# Altium integrated library WE-SLM SMD Common Mode Line Filter.IntLib: 5 symbols
Pins are listed as number, name and electrical type; pins without a type are passive.

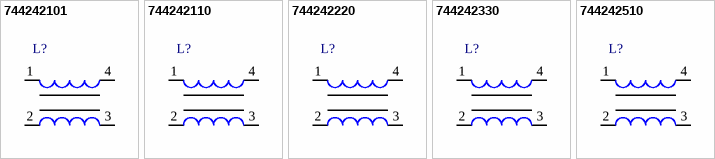
[diagram p0: symbols 744242101 to 744242510]

## 744242101
designator L?
SMD Common Mode Line Filter WE-SLM, L = 100 µH; PartNumber: 744242101; Inductance: 100 µH; DatasheetVersion: ver 3, Feb-2006; PackageReference: WE-SLM; PackageDescription: SMD Inductor, 4-Leads, Body 3.6 x 6.3 mm; ComponentLink1Description: Manufacturer URL; ComponentLink1URL: http://www.we-online.com; ComponentLink2Description: Datasheet; ComponentLink2URL: http://www.we-online.de/katalog/media/pdf/744242101.pdf
footprint WE-SLM (SMD Inductor, 4-Leads, Body 3.6x6.3x3.5 mm)
pins: 1, 2, 3, 4

## 744242110
designator L?
SMD Common Mode Line Filter WE-SLM, L = 11.0 µH; PartNumber: 744242110; Inductance: 11.0 µH; DatasheetVersion: ver 3, Feb-2006; PackageReference: WE-SLM; PackageDescription: SMD Inductor, 4-Leads, Body 3.6 x 6.3 mm; ComponentLink1Description: Manufacturer URL; ComponentLink1URL: http://www.we-online.com; ComponentLink2Description: Datasheet; ComponentLink2URL: http://www.we-online.de/katalog/media/pdf/744242110.pdf
footprint WE-SLM (SMD Inductor, 4-Leads, Body 3.6x6.3x3.5 mm)
pins: 1, 2, 3, 4

## 744242220
designator L?
SMD Common Mode Line Filter WE-SLM, L = 22.0 µH; PartNumber: 744242220; Inductance: 22.0 µH; DatasheetVersion: ver 3, Feb-2006; PackageReference: WE-SLM; PackageDescription: SMD Inductor, 4-Leads, Body 3.6 x 6.3 mm; ComponentLink1Description: Manufacturer URL; ComponentLink1URL: http://www.we-online.com; ComponentLink2Description: Datasheet; ComponentLink2URL: http://www.we-online.de/katalog/media/pdf/744242220.pdf
footprint WE-SLM (SMD Inductor, 4-Leads, Body 3.6x6.3x3.5 mm)
pins: 1, 2, 3, 4

## 744242330
designator L?
SMD Common Mode Line Filter WE-SLM, L = 33.0 µH; PartNumber: 744242330; Inductance: 33.0 µH; DatasheetVersion: ver 3, Feb-2006; PackageReference: WE-SLM; PackageDescription: SMD Inductor, 4-Leads, Body 3.6 x 6.3 mm; ComponentLink1Description: Manufacturer URL; ComponentLink1URL: http://www.we-online.com; ComponentLink2Description: Datasheet; ComponentLink2URL: http://www.we-online.de/katalog/media/pdf/744242330.pdf
footprint WE-SLM (SMD Inductor, 4-Leads, Body 3.6x6.3x3.5 mm)
pins: 1, 2, 3, 4

## 744242510
designator L?
SMD Common Mode Line Filter WE-SLM, L = 51.0 µH; PartNumber: 744242510; Inductance: 51.0 µH; DatasheetVersion: ver 3, Feb-2006; PackageReference: WE-SLM; PackageDescription: SMD Inductor, 4-Leads, Body 3.6 x 6.3 mm; ComponentLink1Description: Manufacturer URL; ComponentLink1URL: http://www.we-online.com; ComponentLink2Description: Datasheet; ComponentLink2URL: http://www.we-online.de/katalog/media/pdf/744242510.pdf
footprint WE-SLM (SMD Inductor, 4-Leads, Body 3.6x6.3x3.5 mm)
pins: 1, 2, 3, 4